# Altium schematic symbol library SCH - PASSIVES - INDUCTOR MAGNATIC-CORE.Schlib: 1 symbol
Pins are listed as number, name and electrical type; pins without a type are passive.

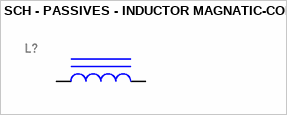
[diagram p0: symbol SCH - PASSIVES - INDUCTOR MAGNATIC-CORE]

## SCH - PASSIVES - INDUCTOR MAGNATIC-CORE
designator L?
footprint CPD1715
pins: 1, 2